# EAGLE library part AP9211SA-AG-HAC-7 (library BrownSpaceEngineering)
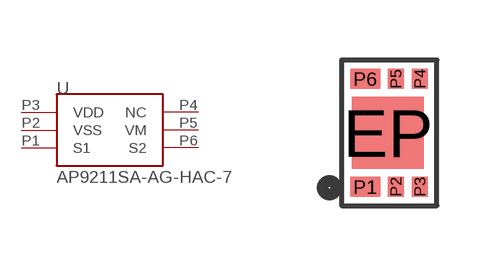
[diagram p31: symbol with the pads of U-DFN2030-6; footprint U-DFN2030-6]

Designator prefix U

## AP9211SA-AG-HAC-7  [U-DFN2030-6]
P1  S1
P2  VSS
P3  VDD
P4  NC
P5  VM
P6  S2

## Footprint U-DFN2030-6 (pad centres in mm)
smd 1.8 x 1.8: EP 0,0
smd 0.75 x 0.5: P1 -0.57,-1.35; P6 -0.57,1.35
smd 0.4 x 0.5: P2 0.2,-1.35; P3 0.8,-1.35; P4 0.8,1.35; P5 0.2,1.35